# EAGLE library part ESP8266_ESP01 (library DECADE-libraries20151104)
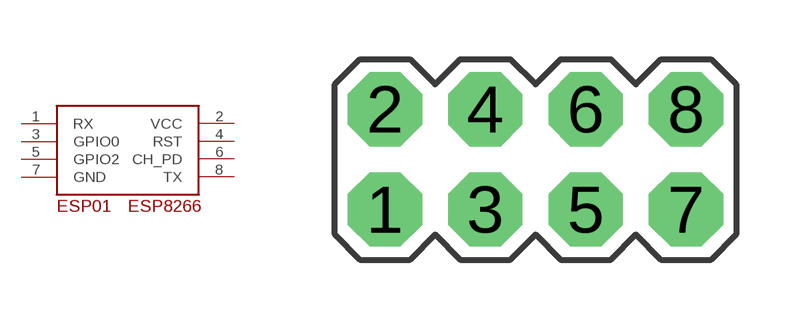
[diagram p130: symbol with the pads of 2X4; footprint 2X4]

Designator prefix -

## ESP8266_ESP01  [2X4]
1  RX
2  VCC
3  GPIO0
4  RST
5  GPIO2
6  CH_PD
7  GND
8  TX

## Footprint 2X4 (pad centres in mm)
drill 1.016 pad 1.88 octagon: 1 -3.81,-1.27; 2 -3.81,1.27; 3 -1.27,-1.27; 4 -1.27,1.27; 5 1.27,-1.27; 6 1.27,1.27; 7 3.81,-1.27; 8 3.81,1.27